# EAGLE library part 24LC41A (library microchip2)
Serial EEPROM 128/512 byte, dual port
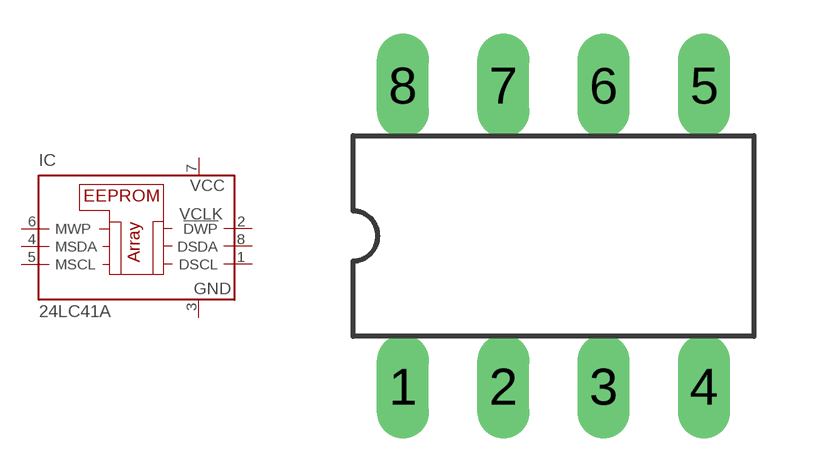
[diagram p46: symbol with the pads of DIL8; footprint DIL8]

Designator prefix IC

## 24LC41AP (OC_FARNELL: unknown; OC_NEWARK: unknown)  [DIL8]
1  DSCL  in
2  !DWP  in
3  GND  pwr
4  MSDA
5  MSCL  in
6  MWP  in
7  VCC  pwr
8  DSDA

## Footprint DIL8 (pad centres in mm)
DIL package type P
drill 0.813 long: 1 -3.81,-3.81; 2 -1.27,-3.81; 3 1.27,-3.81; 4 3.81,-3.81; 5 3.81,3.81; 6 1.27,3.81; 7 -1.27,3.81; 8 -3.81,3.81